# Altium footprint library RGBandGestureSensors.PcbLib: 2 footprints
Each footprint in its own frame and in the unit in brackets; x right, y up, seen from the top. Pads: shape width x height; smd on the part's side, far side on the other; paste and mask are expansions set on the pad; w line width, h text height; cw(c..) or ccw(c..) is an arc to the next point about the centre after c.
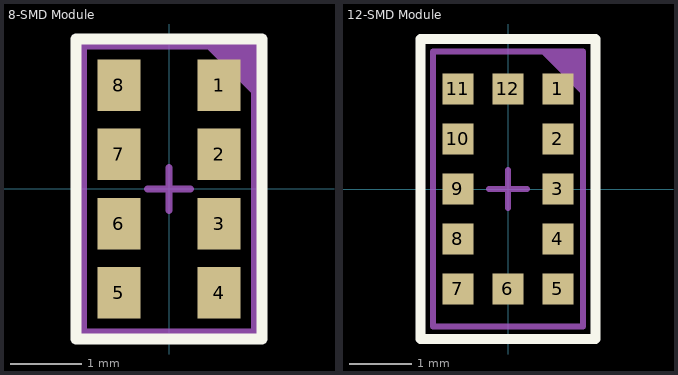
[diagram p0: the footprints below, top view; thin cyan lines are the x and y axes]

## 8-SMD Module [mm]
pads (8):
  rect 0.6x0.72 smd paste+0 mask+0.05: 1(0.7,1.455) 2(0.7,0.485) 3(0.7,-0.485) 4(0.7,-1.455) 5(-0.7,-1.455) 6(-0.7,-0.485) 7(-0.7,0.485) 8(-0.7,1.455)
Top Overlay:
  lines w0.153: -1.3,-2.1 1.3,-2.1 1.3,2.1 -1.3,2.1 -1.3,-2.1
  text "." at 1.753,1.453 h0.8
Top Assembly:
  region: 1.2,2 1.2,1.3 0.5,2
  lines w0.1: -1.2,-2 1.2,-2 1.2,2 -1.2,2 -1.2,-2
  text "'.Designator'" at -0.333,4.532 h0.8
Mechanical 15:
  lines w0.1: -0.3,0 0.3,0 ; 0,-0.3 0,0.3 ; -1.2,-2 -1.2,2 1.2,2 1.2,-2 -1.2,-2
3D body "IC_Broadcom_APDS-9960_eec.STEP": height 1.35, standoff 0, extent -1.18,-1.97 1.18,1.97

## 12-SMD Module [mm]
pads (12):
  rect 0.5x0.5 smd mask+0.05: 1(0.8,1.6) 2(0.8,0.8) 3(0.8,0) 4(0.8,-0.8) 5(0.8,-1.6) 6(0,-1.6) 7(-0.8,-1.6) 8(-0.8,-0.8) 9(-0.8,0) 10(-0.8,0.8) 11(-0.8,1.6) 12(0,1.6)
Top Overlay:
  lines w0.153: -1.4,-2.4 -1.4,2.4 1.4,2.4 1.4,-2.4 -1.4,-2.4
  text "." at 1.847,1.453 h0.8
Top Assembly:
  region: 1.2,2.2 1.2,1.5 0.5,2.2
  lines w0.1: -1.2,-2.2 1.2,-2.2 1.2,2.2 -1.2,2.2 -1.2,-2.2
  text "'.Designator'" at -0.333,4.532 h0.8
Mechanical 15:
  lines w0.1: -0.3,0 0.3,0 ; 0,-0.3 0,0.3 ; -1.2,-2.2 1.2,-2.2 1.2,2.2 -1.2,2.2 -1.2,-2.2
3D body "User Library-vl53l0x.STEP": height 1, standoff -0.03, extent -1.2,-2.2 1.2,2.2